# Altium footprint library OPA862IDTKR.PcbLib: 3 footprints
Each footprint in its own frame and in the unit in brackets; x right, y up, seen from the top. Pads: shape width x height; smd on the part's side, far side on the other; paste and mask are expansions set on the pad; w line width, h text height; cw(c..) or ccw(c..) is an arc to the next point about the centre after c.
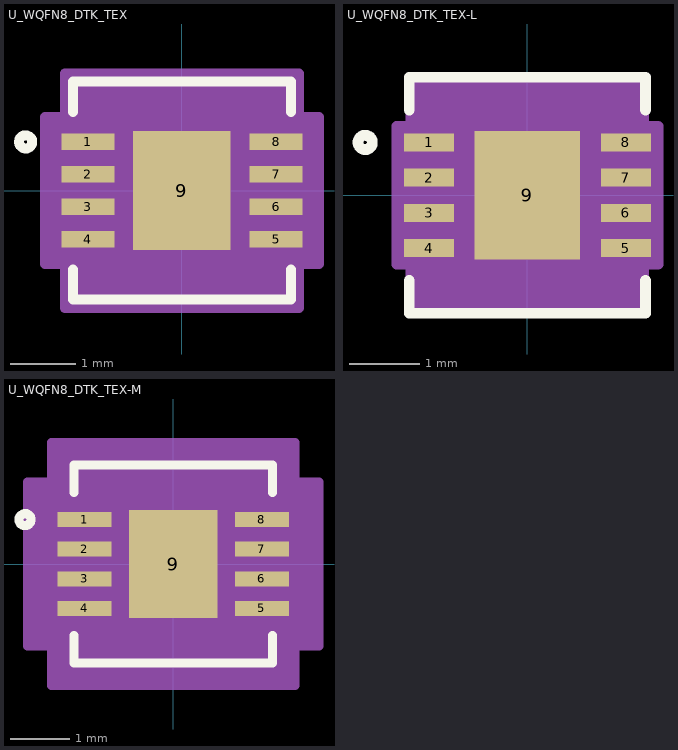
[diagram p0: the footprints below, top view; thin cyan lines are the x and y axes]

## U_WQFN8_DTK_TEX [mil]
pads (9):
  rect 32x10 smd paste+0 mask+0: 1(-57,29.54) 2(-57,9.85) 3(-57,-9.85) 4(-57,-29.54) 5(57,-29.54) 6(57,-9.85) 7(57,9.85) 8(57,29.54)
  rect 59x72 smd paste+0 mask+0: 9(0,0)
Top Overlay:
  circle w6: c-94.69,29.54 r4
  lines w6: -66,-47.63 -66,-66 66,-66 66,-47.63 ; -66,47.63 -66,66 66,66 66,47.63
Mechanical 13:
  circle w0: c-41,29.54 r3
  lines w0: -12,61 ccw(c0,61) 12,61
  lines w1: -61,-61 -61,61 61,61 61,-61 -61,-61
Mechanical 15:
  region: -71,-44.53 -83,-44.53 -83,44.53 -71,44.53 -71,71 71,71 71,44.53 83,44.53 83,-44.53 71,-44.53 71,-71 -71,-71
  lines w6: -83,-44.53 -71,-44.53 -71,-71 71,-71 71,-44.53 83,-44.53 83,44.53 71,44.53 71,71 -71,71 -71,44.53 -83,44.53 -83,-44.53
3D body "U_WQFN8_DTK_TEX.step": height 32.09, standoff 0, extent -60.98,-60.98 60.99,60.99
3D body "U_WQFN8_DTK_TEX.step": height 32.09, standoff 0, extent -60.98,-60.98 60.98,60.98

## U_WQFN8_DTK_TEX-L [mil]
pads (9):
  rect 28x10 smd paste+0 mask+0: 1(-55,29.54) 2(-55,9.85) 3(-55,-9.85) 4(-55,-29.54) 5(55,-29.54) 6(55,-9.85) 7(55,9.85) 8(55,29.54)
  rect 59x72 smd paste+0 mask+0: 9(0,0)
Top Overlay:
  circle w6: c-90.69,29.54 r4
  lines w6: -66,-47.63 -66,-66 66,-66 66,-47.63 ; -66,47.63 -66,66 66,66 66,47.63
Mechanical 13:
  circle w0: c-41,29.54 r3
  lines w0: -12,61 ccw(c0,61) 12,61
  lines w1: -61,-61 61,-61 61,61 -61,61 -61,-61
Mechanical 15:
  region: -65,-38.53 -73,-38.53 -73,38.53 -65,38.53 -65,65 65,65 65,38.53 73,38.53 73,-38.53 65,-38.53 65,-65 -65,-65
  lines w6: -73,-38.53 -73,38.53 -65,38.53 -65,65 65,65 65,38.53 73,38.53 73,-38.53 65,-38.53 65,-65 -65,-65 -65,-38.53 -73,-38.53
3D body "U_WQFN8_DTK_TEX.step": height 32.09, standoff 0, extent -60.98,-60.98 60.99,60.99
3D body "U_WQFN8_DTK_TEX.step": height 32.09, standoff 0, extent -60.98,-60.98 60.98,60.98

## U_WQFN8_DTK_TEX-M [mil]
pads (9):
  rect 36x10 smd paste+0 mask+0: 1(-59,29.54) 2(-59,9.85) 3(-59,-9.85) 4(-59,-29.54) 5(59,-29.54) 6(59,-9.85) 7(59,9.85) 8(59,29.54)
  rect 59x72 smd paste+0 mask+0: 9(0,0)
Top Overlay:
  circle w6: c-98.69,29.54 r4
  lines w6: -66,-47.63 -66,-66 66,-66 66,-47.63 ; -66,47.63 -66,66 66,66 66,47.63
Mechanical 13:
  circle w0: c-41,29.54 r3
  lines w0: -12,61 ccw(c0,61) 12,61
  lines w1: -61,-61 -61,61 61,61 61,-61 -61,-61
Mechanical 15:
  region: -81,-54.53 -97,-54.53 -97,54.53 -81,54.53 -81,81 81,81 81,54.53 97,54.53 97,-54.53 81,-54.53 81,-81 -81,-81
  lines w6: -97,-54.53 -81,-54.53 -81,-81 81,-81 81,-54.53 97,-54.53 97,54.53 81,54.53 81,81 -81,81 -81,54.53 -97,54.53 -97,-54.53
3D body "U_WQFN8_DTK_TEX.step": height 32.09, standoff 0, extent -60.98,-60.98 60.99,60.99
3D body "U_WQFN8_DTK_TEX.step": height 32.09, standoff 0, extent -60.98,-60.98 60.98,60.98